# Altium schematic symbol library SchLib.SchLib: 10 symbols
Pins are listed as number, name and electrical type; pins without a type are passive.

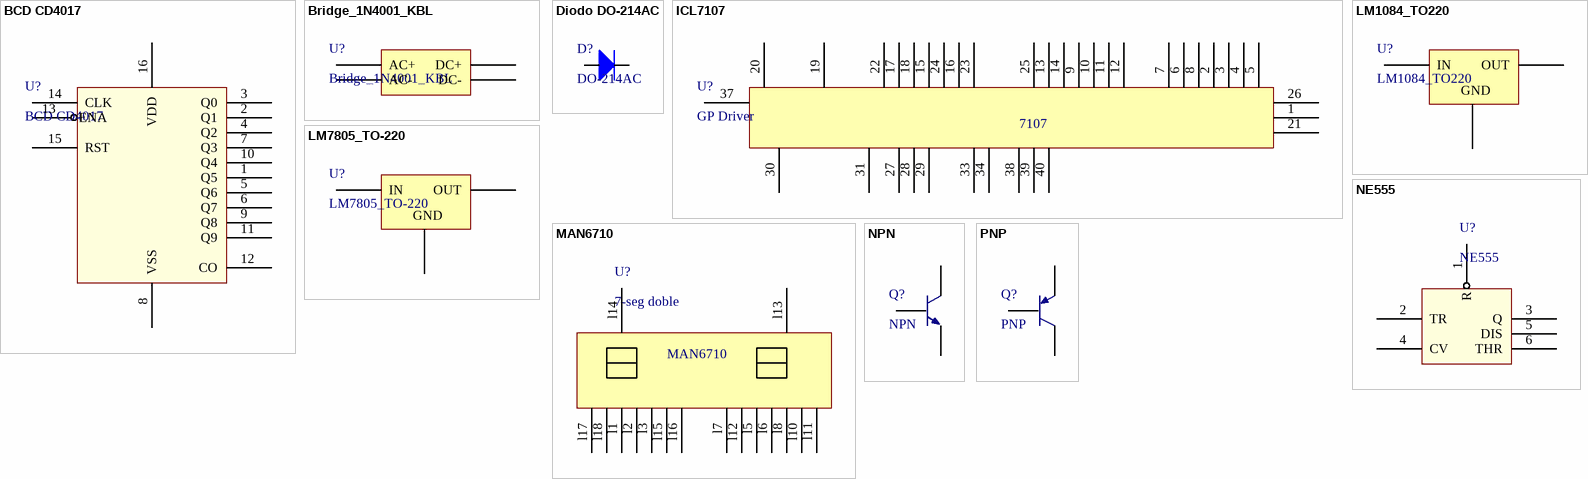
[diagram p0: symbols BCD CD4017 to PNP]

## BCD CD4017
designator U?
Decade Counter with 10 Decoded Outputs; Cod. Proveedor: *; Encapsulado: *; Proveedor: *; Link: *; Fabricante: *
pins: 1 Q5, 2 Q1, 3 Q0, 4 Q2, 5 Q6, 6 Q7, 7 Q3, 8 VSS, 9 Q8, 10 Q4, 11 Q9, 12 CO, 13 ENA, 14 CLK, 15 RST, 16 VDD

## Bridge_1N4001_KBL
designator U?
Cod. Proveedor: *; Encapsulado: *; Link: *; Proveedor: *; Fabricante: *
footprint Bridge_1N4001_KBL
pins: AC+, AC-, DC+, DC-

## Diodo DO-214AC
designator D?, comment DO-214AC
Diodo DO-214AC para puente de diodos; Cod. Proveedor: *; Encapsulado: *; Link: *; Proveedor: *; Fabricante: *
pins: 1 anodo, 2 catodo

## ICL7107
designator U?, comment GP Driver
3 1/2 digit ADC / 7-seg decoder / LCD driver; Cod. Proveedor: *; Encapsulado: *; Link: *; Proveedor: *; Fabricante: *
pins: 1 (power), 2, 3, 4, 5, 6, 7, 8, 9, 10, 11, 12, 13, 14, 15, 16, 17, 18, 19, 20, 21 (power), 22, 23, 24, 25, 26 (power), 27, 28, 29, 30, 31, 33, 34, 37, 38, 39, 40
text: 7107

## LM1084_TO220
designator U?
Cod. Proveedor: *; Encapsulado: *; Link: *; Proveedor: *; Fabricante: *
footprint LM1084_TO-220 (LM1084)
pins: GND, IN, OUT

## LM7805_TO-220
designator U?
Cod. Proveedor: *; Encapsulado: *; Link: *; Proveedor: *; Fabricante: *
footprint LM7805_TO-220
pins: GND, IN, OUT

## MAN6710
designator U?, comment 7-seg doble
7-seg, 2 digitos, anodo comun, right DP; Cod. Proveedor: *; Encapsulado: *; Link: *; Proveedor: *; Fabricante: *
pins: l1, l2, l3, l5, l6, l7, l8, l10, l11, l12, l13 (power), l14 (power), l15, l16, l17, l18

## NE555
designator U?
Cod. Proveedor: *; Encapsulado: *; Link: *; Proveedor: *; Fabricante: *
pins: 1 R, 2 TR, 3 Q, 4 CV, 5 DIS, 6 THR

## NPN
designator Q?
Cod. Proveedor: *; Encapsulado: *; Link: *; Proveedor: *; Fabricante: *
pins: B, C, E

## PNP
designator Q?
Cod. Proveedor: *; Encapsulado: *; Link: *; Proveedor: *; Fabricante: *
pins: B, C, E